# Altium footprint library Type-C-16Pin.PcbLib: 1 footprints
Each footprint in its own frame and in the unit in brackets; x right, y up, seen from the top. Pads: shape width x height; smd on the part's side, far side on the other; paste and mask are expansions set on the pad; w line width, h text height; cw(c..) or ccw(c..) is an arc to the next point about the centre after c.
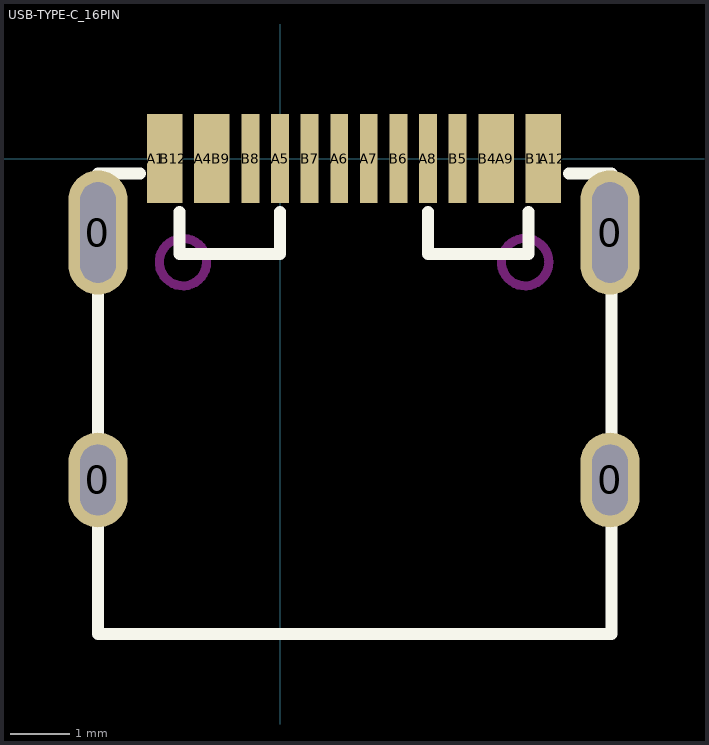
[diagram p0: the footprint, top view; thin cyan lines are the x and y axes]

## USB-TYPE-C_16PIN [mm] "TYPE-C_16PIN"
pads (20):
  oval 1x1.6 hole 0.6 slot 1.2 at 90 deg: 0(-3.075,-5.43) 0(5.575,-5.43)
  oval 1x2.1 hole 0.6 slot 1.7 at 90 deg: 0(-3.075,-1.25) 0(5.575,-1.25)
  rect 0.3x1.5 smd: A1(-2.1,0) A4(-1.3,0) A5(0,0) A6(1,0) A7(1.5,0) A8(2.5,0) A9(3.8,0) A12(4.6,0) B1(4.3,0) B4(3.5,0) B5(3,0) B6(2,0) B7(0.5,0) B8(-0.5,0) B9(-1,0) B12(-1.8,0)
Top Overlay:
  lines w0.2: -2.362,-0.254 -3.075,-0.254 -3.075,-8.03 5.6,-8.03 5.6,-0.254 4.877,-0.254 ; -1.7,-0.9 -1.7,-1.613 0,-1.613 0,-0.9 ; 2.5,-0.9 2.5,-1.613 4.2,-1.613 4.2,-0.9
Keep-Out Layer:
  circle w0.152: c-1.64,-1.75 r0.4
  circle w0.152: c4.14,-1.75 r0.4